# Altium footprint library Header-2.54mm-1X2-M-V.PcbLib: 1 footprints
Each footprint in its own frame and in the unit in brackets; x right, y up, seen from the top. Pads: shape width x height; smd on the part's side, far side on the other; paste and mask are expansions set on the pad; w line width, h text height; cw(c..) or ccw(c..) is an arc to the next point about the centre after c.
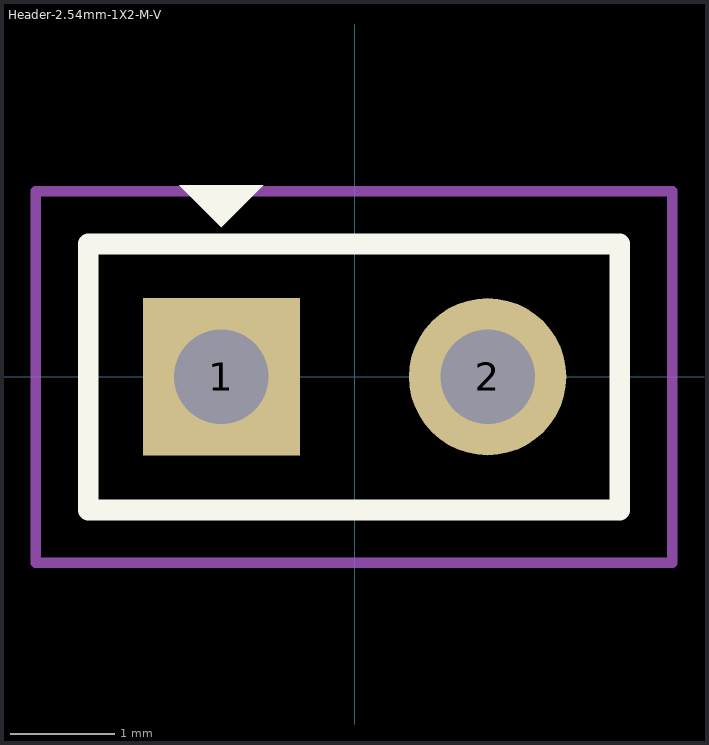
[diagram p0: the footprint, top view; thin cyan lines are the x and y axes]

## Header-2.54mm-1X2-M-V [mm]
pads (2):
  rect 1.5x1.5 hole 0.9: 1(-1.27,0)
  round 1.5 hole 0.9: 2(1.27,0)
Top Overlay:
  region: -1.67,1.825 -0.87,1.825 -1.27,1.425
  lines w0.2: -2.54,-1.273 2.53,-1.273 2.53,1.267 -2.54,1.267 -2.54,-1.273
Top Courtyard:
  lines w0.1: -3.04,-1.773 -3.04,1.767 3.03,1.767 3.03,-1.773 -2.54,-1.773 -3.04,-1.773
3D body: height 3, standoff 0, extent 0.533,-0.737 2.007,0.737
3D body: height 3, standoff 0, extent -2.007,-0.737 -0.533,0.737
3D body "Pin Header Male 01x01 P2.54mm.stp": height 8.34, standoff -3.05, extent 0,-1.272 2.54,1.268
3D body "Pin Header Male 01x01 P2.54mm.stp": height 8.34, standoff -3.05, extent -2.54,-1.272 0,1.268